# Altium schematic symbol library TCRT5000.SchLib: 1 symbol
Pins are listed as number, name and electrical type; pins without a type are passive.

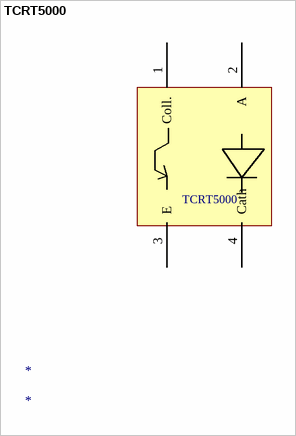
[diagram p0: symbol TCRT5000]

## TCRT5000
designator *
footprint TCRT5000 Droit
pins: 1 Coll., 2 A, 3 E, 4 Cath